# Altium footprint library MOLEX-12_180.PcbLib: 1 footprints
Each footprint in its own frame and in the unit in brackets; x right, y up, seen from the top. Pads: shape width x height; smd on the part's side, far side on the other; paste and mask are expansions set on the pad; w line width, h text height; cw(c..) or ccw(c..) is an arc to the next point about the centre after c.
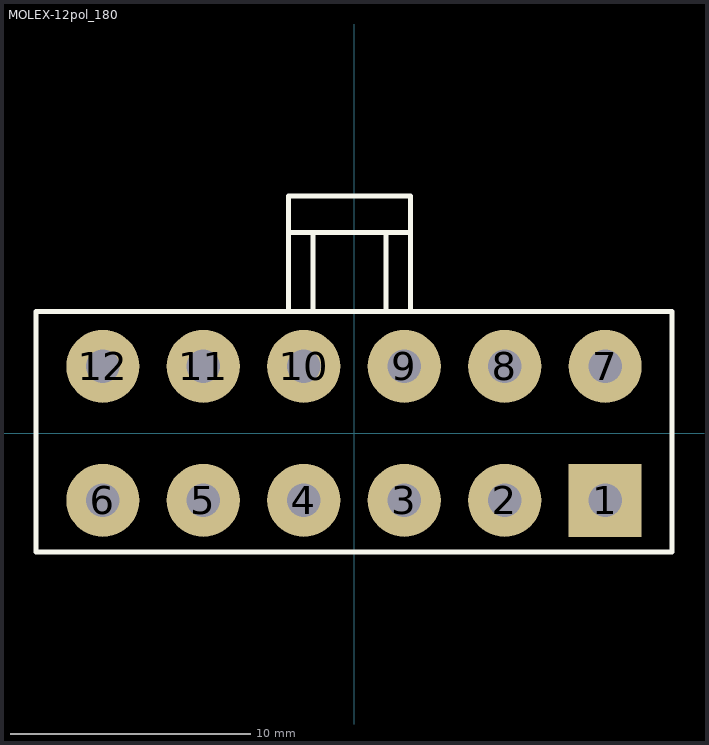
[diagram p0: the footprint, top view; thin cyan lines are the x and y axes]

## MOLEX-12pol_180 [mil]
pads (12):
  rect 120x120 hole 55: 1(412.5,-110)
  round 120 hole 55: 2(247.5,-110) 3(82.5,-110) 4(-82.5,-110) 5(-247.5,-110) 6(-412.5,-110) 7(412.5,110) 8(247.5,110) 9(82.5,110) 10(-82.5,110) 11(-247.5,110) 12(-412.5,110)
TopOverlay:
  lines w8: -467.5,200 -522.5,200 ; -107.5,200 -107.5,390 92.5,390 92.5,200 ; -107.5,330 87.5,330 ; -67.5,200 -67.5,330 ; 52.5,200 52.5,330 ; -522.5,200 302.5,200 522.5,200 522.5,-195 -522.5,-195 -522.5,200